# EAGLE library part AP33772 (library BW-Active)
USB-C PD PPS Sink Controller
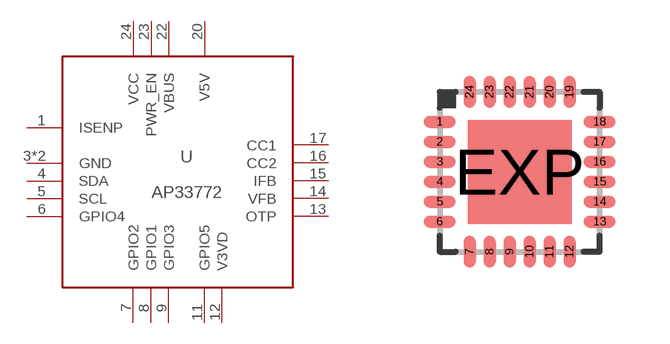
[diagram p48: symbol with the pads of QFN24-4X4; footprint QFN24-4X4]

Designator prefix U

## AP33772  [QFN24-4X4]
1  ISENP
3  GND
4  SDA
5  SCL
6  GPIO4
7  GPIO2
8  GPIO1
9  GPIO3
11  GPIO5
12  V3VD
13  OTP
14  VFB
15  IFB
16  CC2
17  CC1
20  V5V
22  VBUS
23  PWR_EN
24  VCC
EXP  GND

## Footprint QFN24-4X4 (pad centres in mm)
UF Package 24-Lead (4mm × 4mm) Plastic QFN Source: http://cds.linear.com/docs/Datasheet/5598f.pdf
smd 0.8 x 0.3: 1 -2,1.25; 2 -2,0.75; 3 -2,0.25; 4 -2,-0.25; 5 -2,-0.75; 6 -2,-1.25; 13 2,-1.25; 14 2,-0.75; 15 2,-0.25; 16 2,0.25; 17 2,0.75; 18 2,1.25
smd 0.3 x 0.8: 7 -1.25,-2; 8 -0.75,-2; 9 -0.25,-2; 10 0.25,-2; 11 0.75,-2; 12 1.25,-2; 19 1.25,2; 20 0.75,2; 21 0.25,2; 22 -0.25,2; 23 -0.75,2; 24 -1.25,2
smd 2.6 x 2.6: EXP 0,0